# Altium footprint library GD32.PcbLib: 22 footprints (part 1 of 2)
Each footprint in its own frame and in the unit in brackets; x right, y up, seen from the top. Pads: shape width x height; smd on the part's side, far side on the other; paste and mask are expansions set on the pad; w line width, h text height; cw(c..) or ccw(c..) is an arc to the next point about the centre after c.
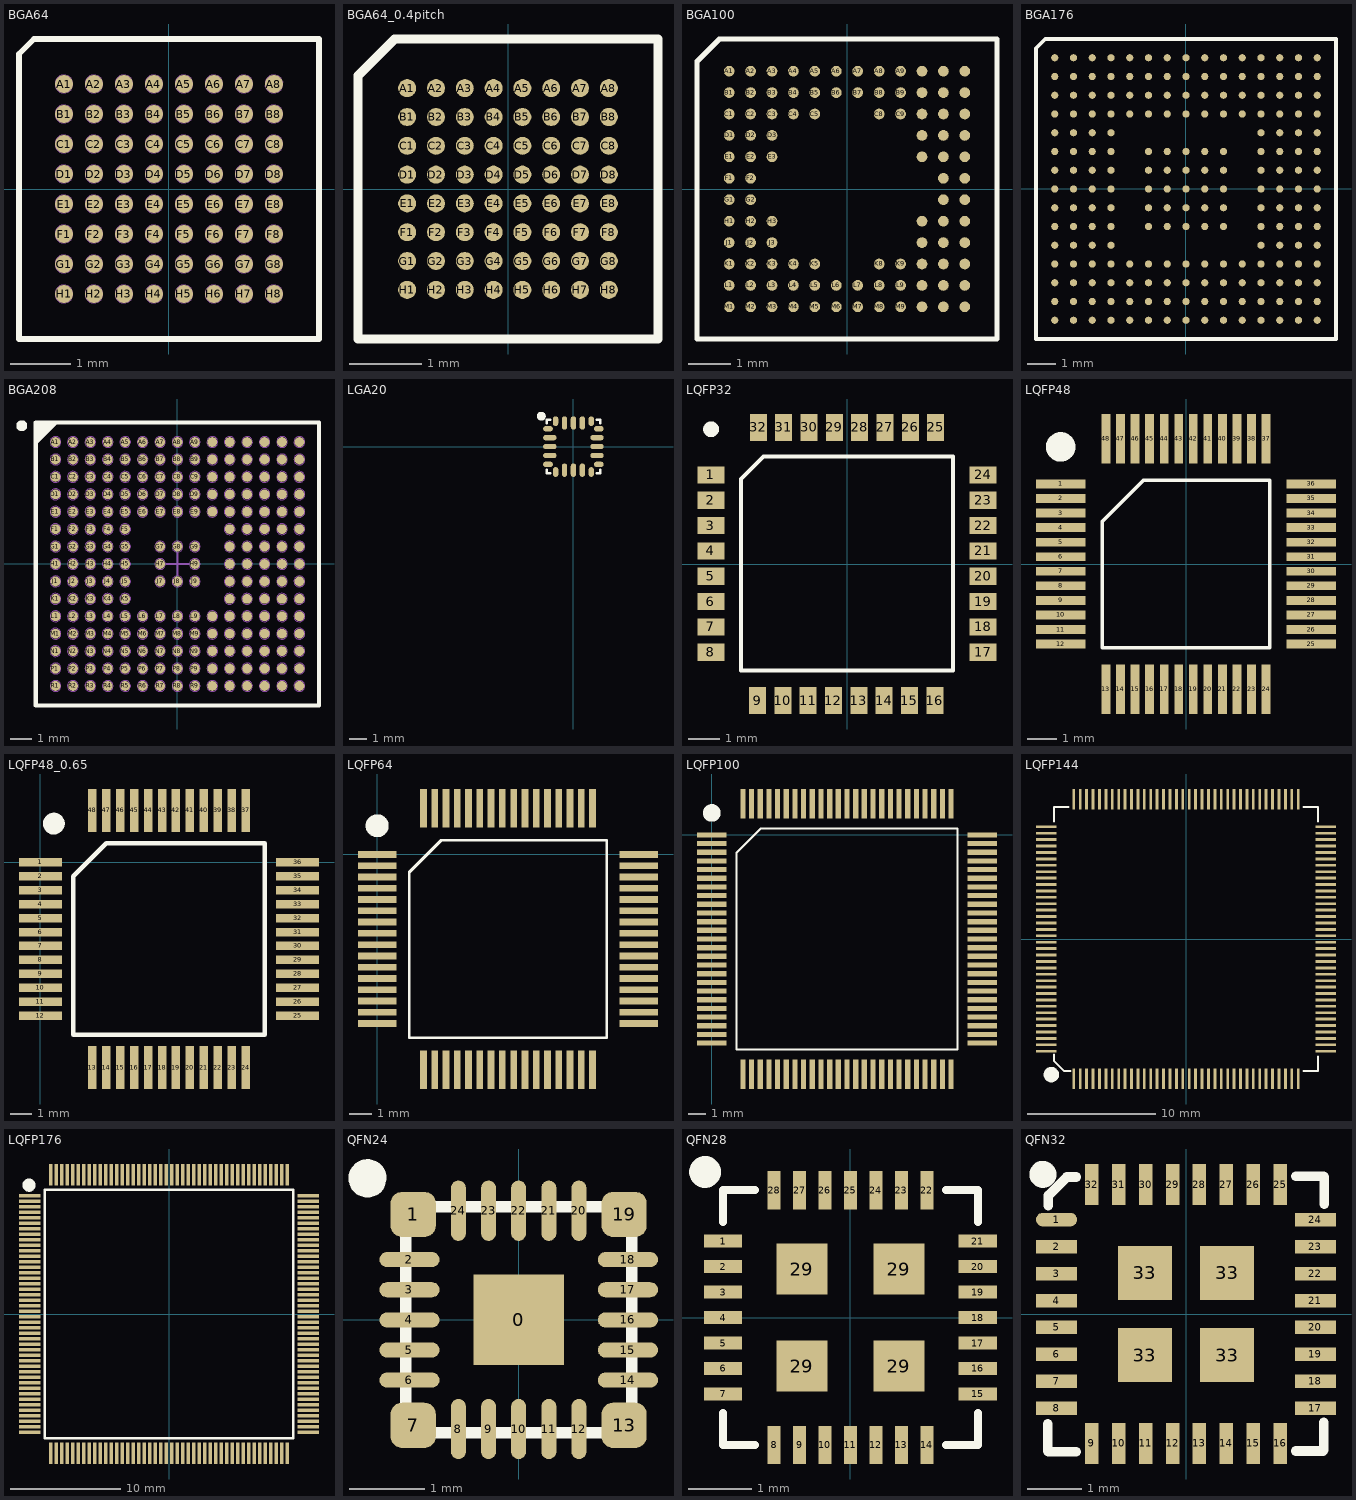
[diagram p0: the footprints below, top view; thin cyan lines are the x and y axes]

## BGA64 [mm] "5*5 0.5pitch"
pads (64):
  round 0.3 smd: A1(-1.75,1.75) A2(-1.25,1.75) A3(-0.75,1.75) A4(-0.25,1.75) A5(0.25,1.75) A6(0.75,1.75) A7(1.25,1.75) A8(1.75,1.75) B1(-1.75,1.25) B2(-1.25,1.25) B3(-0.75,1.25) B4(-0.25,1.25) B5(0.25,1.25) B6(0.75,1.25) B7(1.25,1.25) B8(1.75,1.25) C1(-1.75,0.75) C2(-1.25,0.75) C3(-0.75,0.75) C4(-0.25,0.75) C5(0.25,0.75) C6(0.75,0.75) C7(1.25,0.75) C8(1.75,0.75) D1(-1.75,0.25) D2(-1.25,0.25) D3(-0.75,0.25) D4(-0.25,0.25) D5(0.25,0.25) D6(0.75,0.25) D7(1.25,0.25) D8(1.75,0.25) E1(-1.75,-0.25) E2(-1.25,-0.25) E3(-0.75,-0.25) E4(-0.25,-0.25) E5(0.25,-0.25) E6(0.75,-0.25) E7(1.25,-0.25) E8(1.75,-0.25) F1(-1.75,-0.75) F2(-1.25,-0.75) F3(-0.75,-0.75) F4(-0.25,-0.75) F5(0.25,-0.75) F6(0.75,-0.75) F7(1.25,-0.75) F8(1.75,-0.75) G1(-1.75,-1.25) G2(-1.25,-1.25) G3(-0.75,-1.25) G4(-0.25,-1.25) G5(0.25,-1.25) G6(0.75,-1.25) G7(1.25,-1.25) G8(1.75,-1.25) H1(-1.75,-1.75) H2(-1.25,-1.75) H3(-0.75,-1.75) H4(-0.25,-1.75) H5(0.25,-1.75) H6(0.75,-1.75) H7(1.25,-1.75) H8(1.75,-1.75)
Top Overlay:
  lines w0.1: -2.5,-2.5 -2.5,2.25 -2.25,2.5 2.5,2.5 2.5,-2.5 -2.5,-2.5
Mechanical 2:
  circle w0.001: c1.604,1.716 r0
  circle w0.001: c1.896,1.784 r0
  circle w0.001: c-1.25,-1.75 r0
  circle w0.001: c-1.75,-1.75 r0
  circle w0.001: c-1.75,-1.75 r0
  circle w0.001: c-1.75,1.75 r0
  circle w0.001: c1.75,1.75 r0
  circle w0.001: c-1.75,1.75 r0
  circle w0.001: c-1.75,-1.75 r0.15
  circle w0.001: c-1.75,0.25 r0.15
  circle w0.001: c-1.75,-0.25 r0.15
  circle w0.001: c-1.75,-0.75 r0.15
  circle w0.001: c-1.75,1.75 r0.15
  circle w0.001: c-1.75,1.25 r0.15
  circle w0.001: c0.25,-1.75 r0.15
  circle w0.001: c-0.25,-1.75 r0.15
  circle w0.001: c-0.75,-1.75 r0.15
  circle w0.001: c0.25,0.25 r0.15
  circle w0.001: c0.25,-0.25 r0.15
  circle w0.001: c0.25,-0.75 r0.15
  circle w0.001: c-0.25,0.25 r0.15
  circle w0.001: c-0.25,-0.25 r0.15
  circle w0.001: c-0.25,-0.75 r0.15
  circle w0.001: c-0.75,0.25 r0.15
  circle w0.001: c-0.75,-0.25 r0.15
  circle w0.001: c-0.75,-0.75 r0.15
  circle w0.001: c0.25,1.75 r0.15
  circle w0.001: c0.25,1.25 r0.15
  circle w0.001: c-0.25,1.75 r0.15
  circle w0.001: c-0.25,1.25 r0.15
  circle w0.001: c-0.75,1.75 r0.15
  circle w0.001: c-0.75,1.25 r0.15
  circle w0.001: c1.75,-1.75 r0.15
  circle w0.001: c1.25,-1.75 r0.15
  circle w0.001: c1.75,0.25 r0.15
  circle w0.001: c1.75,-0.25 r0.15
  circle w0.001: c1.75,-0.75 r0.15
  circle w0.001: c1.25,0.25 r0.15
  circle w0.001: c1.25,-0.25 r0.15
  circle w0.001: c1.25,-0.75 r0.15
  circle w0.001: c1.75,1.75 r0.15
  circle w0.001: c1.75,1.25 r0.15
  circle w0.001: c1.25,1.75 r0.15
  circle w0.001: c1.25,1.25 r0.15
  circle w0.001: c-1.75,-1.25 r0.15
  circle w0.001: c-1.75,0.75 r0.15
  circle w0.001: c0.25,-1.25 r0.15
  circle w0.001: c-0.25,-1.25 r0.15
  circle w0.001: c-0.75,-1.25 r0.15
  circle w0.001: c0.25,0.75 r0.15
  circle w0.001: c-0.25,0.75 r0.15
  circle w0.001: c-0.75,0.75 r0.15
  circle w0.001: c1.75,-1.25 r0.15
  circle w0.001: c1.25,-1.25 r0.15
  circle w0.001: c1.75,0.75 r0.15
  circle w0.001: c1.25,0.75 r0.15
  circle w0.001: c-1.25,-1.75 r0.15
  circle w0.001: c-1.25,0.25 r0.15
  circle w0.001: c-1.25,-0.25 r0.15
  circle w0.001: c-1.25,-0.75 r0.15
  circle w0.001: c-1.25,1.75 r0.15
  circle w0.001: c-1.25,1.25 r0.15
  circle w0.001: c0.75,-1.75 r0.15
  circle w0.001: c0.75,0.25 r0.15
  circle w0.001: c0.75,-0.25 r0.15
  circle w0.001: c0.75,-0.75 r0.15
  circle w0.001: c0.75,1.75 r0.15
  circle w0.001: c0.75,1.25 r0.15
  circle w0.001: c-1.25,-1.25 r0.15
  circle w0.001: c-1.25,0.75 r0.15
  circle w0.001: c0.75,-1.25 r0.15
  circle w0.001: c0.75,0.75 r0.15

## BGA64_0.4pitch [mm] "4*4 0.4pitch"
pads (64):
  round 0.25 smd: A1(-1.4,1.4) A2(-1,1.4) A3(-0.6,1.4) A4(-0.2,1.4) A5(0.2,1.4) A6(0.6,1.4) A7(1,1.4) A8(1.4,1.4) B1(-1.4,1) B2(-1,1) B3(-0.6,1) B4(-0.2,1) B5(0.2,1) B6(0.6,1) B7(1,1) C1(-1.4,0.6) C2(-1,0.6) C3(-0.6,0.6) C4(-0.2,0.6) C5(0.2,0.6) C6(0.6,0.6) C7(1,0.6) C8(1.4,0.6) D1(-1.4,0.2) D2(-1,0.2) D3(-0.6,0.2) D4(-0.2,0.2) D5(0.2,0.2) D6(0.6,0.2) D7(1,0.2) D8(1.4,0.2) E1(-1.4,-0.2) E2(-1,-0.2) E3(-0.6,-0.2) E4(-0.2,-0.2) E5(0.2,-0.2) E6(0.6,-0.2) E7(1,-0.2) E8(1.4,-0.2) F1(-1.4,-0.6) F2(-1,-0.6) F3(-0.6,-0.6) F4(-0.2,-0.6) F5(0.2,-0.6) F6(0.6,-0.6) F7(1,-0.6) F8(1.4,-0.6) G1(-1.4,-1) G2(-1,-1) G3(-0.6,-1) G4(-0.2,-1) G5(0.2,-1) G6(0.6,-1) G7(1,-1) G8(1.4,-1) H1(-1.4,-1.4) H2(-1,-1.4) H3(-0.6,-1.4) H4(-0.2,-1.4) H5(0.2,-1.4) H6(0.6,-1.4) H7(1,-1.4) H8(1.4,-1.4)
  oval 0.25x0.253 smd: B8(1.4,1)
Top Overlay:
  lines w0.127: -2.083,-2.083 -2.083,1.575 -1.575,2.083 2.083,2.083 2.083,-2.083 -2.083,-2.083

## BGA100 [mm] "7*7 0.5pitch"
pads (100):
  round 0.25 smd mask+0.1: A1(-2.75,2.75)
  round 0.25 smd: A2(-2.25,2.75) A3(-1.75,2.75) A4(-1.25,2.75) A5(-0.75,2.75) A6(-0.25,2.75) A7(0.25,2.75) A8(0.75,2.75) A9(1.25,2.75) A10(1.75,2.75) A11(2.25,2.75) A12(2.75,2.75) B1(-2.75,2.25) B2(-2.25,2.25) B3(-1.75,2.25) B4(-1.25,2.25) B5(-0.75,2.25) B6(-0.25,2.25) B7(0.25,2.25) B8(0.75,2.25) B9(1.25,2.25) B10(1.75,2.25) B11(2.25,2.25) B12(2.75,2.25) C1(-2.75,1.75) C2(-2.25,1.75) C3(-1.75,1.75) C4(-1.25,1.75) C5(-0.75,1.75) C8(0.75,1.75) C9(1.25,1.75) C10(1.75,1.75) C11(2.25,1.75) C12(2.75,1.75) D1(-2.75,1.25) D2(-2.25,1.25) D3(-1.75,1.25) D10(1.75,1.25) D11(2.25,1.25) D12(2.75,1.25) E1(-2.75,0.75) E2(-2.25,0.75) E3(-1.75,0.75) E10(1.75,0.75) E11(2.25,0.75) E12(2.75,0.75) F1(-2.75,0.25) F2(-2.25,0.25) F11(2.25,0.25) F12(2.75,0.25) G1(-2.75,-0.25) G2(-2.25,-0.25) G11(2.25,-0.25) G12(2.75,-0.25) H1(-2.75,-0.75) H2(-2.25,-0.75) H3(-1.75,-0.75) H10(1.75,-0.75) H11(2.25,-0.75) H12(2.75,-0.75) J1(-2.75,-1.25) J2(-2.25,-1.25) J3(-1.75,-1.25) J10(1.75,-1.25) J11(2.25,-1.25) J12(2.75,-1.25) K1(-2.75,-1.75) K2(-2.25,-1.75) K3(-1.75,-1.75) K4(-1.25,-1.75) K5(-0.75,-1.75) K8(0.75,-1.75) K9(1.25,-1.75) K10(1.75,-1.75) K11(2.25,-1.75) K12(2.75,-1.75) L1(-2.75,-2.25) L2(-2.25,-2.25) L3(-1.75,-2.25) L4(-1.25,-2.25) L5(-0.75,-2.25) L6(-0.25,-2.25) L7(0.25,-2.25) L8(0.75,-2.25) L9(1.25,-2.25) L10(1.75,-2.25) L11(2.25,-2.25) L12(2.75,-2.25) M1(-2.75,-2.75) M2(-2.25,-2.75) M3(-1.75,-2.75) M4(-1.25,-2.75) M5(-0.75,-2.75) M6(-0.25,-2.75) M7(0.25,-2.75) M8(0.75,-2.75) M9(1.25,-2.75) M10(1.75,-2.75) M11(2.25,-2.75) M12(2.75,-2.75)
Top Overlay:
  lines w0.127: -3.5,-3.5 -3.5,2.977 -2.977,3.5 3.5,3.5 3.5,-3.5 -3.5,-3.5

## BGA176 [mm] "10*10 0.65pitch"
pads (201):
  round 0.25 smd mask+0.1: A1(-4.55,4.55)
  round 0.25 smd: A2(-3.9,4.55) A3(-3.25,4.55) A4(-2.6,4.55) A5(-1.95,4.55) A6(-1.3,4.55) A7(-0.65,4.55) A8(0,4.55) A9(0.65,4.55) A10(1.3,4.55) A11(1.95,4.55) A12(2.6,4.55) A13(3.25,4.55) A14(3.9,4.55) A15(4.55,4.55) B1(-4.55,3.9) B2(-3.9,3.9) B3(-3.25,3.9) B4(-2.6,3.9) B5(-1.95,3.9) B6(-1.3,3.9) B7(-0.65,3.9) B8(0,3.9) B9(0.65,3.9) B10(1.3,3.9) B11(1.95,3.9) B12(2.6,3.9) B13(3.25,3.9) B14(3.9,3.9) B15(4.55,3.9) C1(-4.55,3.25) C2(-3.9,3.25) C3(-3.25,3.25) C4(-2.6,3.25) C5(-1.95,3.25) C6(-1.3,3.25) C7(-0.65,3.25) C8(0,3.25) C9(0.65,3.25) C10(1.3,3.25) C11(1.95,3.25) C12(2.6,3.25) C13(3.25,3.25) C14(3.9,3.25) C15(4.55,3.25) D1(-4.55,2.6) D2(-3.9,2.6) D3(-3.25,2.6) D4(-2.6,2.6) D5(-1.95,2.6) D6(-1.3,2.6) D7(-0.65,2.6) D8(0,2.6) D9(0.65,2.6) D10(1.3,2.6) D11(1.95,2.6) D12(2.6,2.6) D13(3.25,2.6) D14(3.9,2.6) D15(4.55,2.6) E1(-4.55,1.95) E2(-3.9,1.95) E3(-3.25,1.95) E4(-2.6,1.95) E12(2.6,1.95) E13(3.25,1.95) E14(3.9,1.95) E15(4.55,1.95) F1(-4.55,1.3) F2(-3.9,1.3) F3(-3.25,1.3) F4(-2.6,1.3) F6(-1.3,1.3) F7(-0.65,1.3) F8(0,1.3) F9(0.65,1.3) F10(1.3,1.3) F12(2.6,1.3) F13(3.25,1.3) F14(3.9,1.3) F15(4.55,1.3) G1(-4.55,0.65) G2(-3.9,0.65) G3(-3.25,0.65) G4(-2.6,0.65) G6(-1.3,0.65) G7(-0.65,0.65) G8(0,0.65) G9(0.65,0.65) G10(1.3,0.65) G12(2.6,0.65) G13(3.25,0.65) G14(3.9,0.65) G15(4.55,0.65) H1(-4.55,0) H2(-3.9,0) H3(-3.25,0) H4(-2.6,0) H6(-1.3,0) H7(-0.65,0) H8(0,0) H9(0.65,0) H10(1.3,0) H12(2.6,0) H13(3.25,0) H14(3.9,0) H15(4.55,0) J1(-4.55,-0.65) J2(-3.9,-0.65) J3(-3.25,-0.65) J4(-2.6,-0.65) J6(-1.3,-0.65) J7(-0.65,-0.65) J8(0,-0.65) J9(0.65,-0.65) J10(1.3,-0.65) J12(2.6,-0.65) J13(3.25,-0.65) J14(3.9,-0.65) J15(4.55,-0.65) K1(-4.55,-1.3) K2(-3.9,-1.3) K3(-3.25,-1.3) K4(-2.6,-1.3) K6(-1.3,-1.3) K7(-0.65,-1.3) K8(0,-1.3) K9(0.65,-1.3) K10(1.3,-1.3) K12(2.6,-1.3) K13(3.25,-1.3) K14(3.9,-1.3) K15(4.55,-1.3) L1(-4.55,-1.95) L2(-3.9,-1.95) L3(-3.25,-1.95) L4(-2.6,-1.95) L12(2.6,-1.95) L13(3.25,-1.95) L14(3.9,-1.95) L15(4.55,-1.95) M1(-4.55,-2.6) M2(-3.9,-2.6) M3(-3.25,-2.6) M4(-2.6,-2.6) M5(-1.95,-2.6) M6(-1.3,-2.6) M7(-0.65,-2.6) M8(0,-2.6) M9(0.65,-2.6) M10(1.3,-2.6) M11(1.95,-2.6) M12(2.6,-2.6) M13(3.25,-2.6) M14(3.9,-2.6) M15(4.55,-2.6) N1(-4.55,-3.25) N2(-3.9,-3.25) N3(-3.25,-3.25) N4(-2.6,-3.25) N5(-1.95,-3.25) N6(-1.3,-3.25) N7(-0.65,-3.25) N8(0,-3.25) N9(0.65,-3.25) N10(1.3,-3.25) N11(1.95,-3.25) N12(2.6,-3.25) N13(3.25,-3.25) N14(3.9,-3.25) N15(4.55,-3.25) P1(-4.55,-3.9) P2(-3.9,-3.9) P3(-3.25,-3.9) P4(-2.6,-3.9) P5(-1.95,-3.9) P6(-1.3,-3.9) P7(-0.65,-3.9) P8(0,-3.9) P9(0.65,-3.9) P10(1.3,-3.9) P11(1.95,-3.9) P12(2.6,-3.9) P13(3.25,-3.9) P14(3.9,-3.9) P15(4.55,-3.9) R1(-4.55,-4.55) R2(-3.9,-4.55) R3(-3.25,-4.55) R4(-2.6,-4.55) R5(-1.95,-4.55) R6(-1.3,-4.55) R7(-0.65,-4.55) R8(0,-4.55) R9(0.65,-4.55) R10(1.3,-4.55) R11(1.95,-4.55) R12(2.6,-4.55) R13(3.25,-4.55) R14(3.9,-4.55) R15(4.55,-4.55)
Top Overlay:
  lines w0.127: -5.2,-5.2 -5.2,4.875 -4.875,5.2 5.2,5.2 5.2,-5.2 -5.2,-5.2

## BGA208 [mm] "13*13,0.8pitch"
height 1.05
pads (208):
  round 0.45 smd: A1(-5.6,5.6) A2(-4.8,5.6) A3(-4,5.6) A4(-3.2,5.6) A5(-2.4,5.6) A6(-1.6,5.6) A7(-0.8,5.6) A8(0,5.6) A9(0.8,5.6) A10(1.6,5.6) A11(2.4,5.6) A12(3.2,5.6) A13(4,5.6) A14(4.8,5.6) A15(5.6,5.6) B1(-5.6,4.8) B2(-4.8,4.8) B3(-4,4.8) B4(-3.2,4.8) B5(-2.4,4.8) B6(-1.6,4.8) B7(-0.8,4.8) B8(0,4.8) B9(0.8,4.8) B10(1.6,4.8) B11(2.4,4.8) B12(3.2,4.8) B13(4,4.8) B14(4.8,4.8) B15(5.6,4.8) C1(-5.6,4) C2(-4.8,4) C3(-4,4) C4(-3.2,4) C5(-2.4,4) C6(-1.6,4) C7(-0.8,4) C8(0,4) C9(0.8,4) C10(1.6,4) C11(2.4,4) C12(3.2,4) C13(4,4) C14(4.8,4) C15(5.6,4) D1(-5.6,3.2) D2(-4.8,3.2) D3(-4,3.2) D4(-3.2,3.2) D5(-2.4,3.2) D6(-1.6,3.2) D7(-0.8,3.2) D8(0,3.2) D9(0.8,3.2) D10(1.6,3.2) D11(2.4,3.2) D12(3.2,3.2) D13(4,3.2) D14(4.8,3.2) D15(5.6,3.2) E1(-5.6,2.4) E2(-4.8,2.4) E3(-4,2.4) E4(-3.2,2.4) E5(-2.4,2.4) E6(-1.6,2.4) E7(-0.8,2.4) E8(0,2.4) E9(0.8,2.4) E10(1.6,2.4) E11(2.4,2.4) E12(3.2,2.4) E13(4,2.4) E14(4.8,2.4) E15(5.6,2.4) F1(-5.6,1.6) F2(-4.8,1.6) F3(-4,1.6) F4(-3.2,1.6) F5(-2.4,1.6) F11(2.4,1.6) F12(3.2,1.6) F13(4,1.6) F14(4.8,1.6) F15(5.6,1.6) G1(-5.6,0.8) G2(-4.8,0.8) G3(-4,0.8) G4(-3.2,0.8) G5(-2.4,0.8) G7(-0.8,0.8) G8(0,0.8) G9(0.8,0.8) G11(2.4,0.8) G12(3.2,0.8) G13(4,0.8) G14(4.8,0.8) G15(5.6,0.8) H1(-5.6,0) H2(-4.8,0) H3(-4,0) H4(-3.2,0) H5(-2.4,0) H7(-0.8,0) H9(0.8,0) H11(2.4,0) H12(3.2,0) H13(4,0) H14(4.8,0) H15(5.6,0) J1(-5.6,-0.8) J2(-4.8,-0.8) J3(-4,-0.8) J4(-3.2,-0.8) J5(-2.4,-0.8) J7(-0.8,-0.8) J8(0,-0.8) J9(0.8,-0.8) J11(2.4,-0.8) J12(3.2,-0.8) J13(4,-0.8) J14(4.8,-0.8) J15(5.6,-0.8) K1(-5.6,-1.6) K2(-4.8,-1.6) K3(-4,-1.6) K4(-3.2,-1.6) K5(-2.4,-1.6) K11(2.4,-1.6) K12(3.2,-1.6) K13(4,-1.6) K14(4.8,-1.6) K15(5.6,-1.6) L1(-5.6,-2.4) L2(-4.8,-2.4) L3(-4,-2.4) L4(-3.2,-2.4) L5(-2.4,-2.4) L6(-1.6,-2.4) L7(-0.8,-2.4) L8(0,-2.4) L9(0.8,-2.4) L10(1.6,-2.4) L11(2.4,-2.4) L12(3.2,-2.4) L13(4,-2.4) L14(4.8,-2.4) L15(5.6,-2.4) M1(-5.6,-3.2) M2(-4.8,-3.2) M3(-4,-3.2) M4(-3.2,-3.2) M5(-2.4,-3.2) M6(-1.6,-3.2) M7(-0.8,-3.2) M8(0,-3.2) M9(0.8,-3.2) M10(1.6,-3.2) M11(2.4,-3.2) M12(3.2,-3.2) M13(4,-3.2) M14(4.8,-3.2) M15(5.6,-3.2) N1(-5.6,-4) N2(-4.8,-4) N3(-4,-4) N4(-3.2,-4) N5(-2.4,-4) N6(-1.6,-4) N7(-0.8,-4) N8(0,-4) N9(0.8,-4) N10(1.6,-4) N11(2.4,-4) N12(3.2,-4) N13(4,-4) N14(4.8,-4) N15(5.6,-4) P1(-5.6,-4.8) P2(-4.8,-4.8) P3(-4,-4.8) P4(-3.2,-4.8) P5(-2.4,-4.8) P6(-1.6,-4.8) P7(-0.8,-4.8) P8(0,-4.8) P9(0.8,-4.8) P10(1.6,-4.8) P11(2.4,-4.8) P12(3.2,-4.8) P13(4,-4.8) P14(4.8,-4.8) P15(5.6,-4.8) R1(-5.6,-5.6) R2(-4.8,-5.6) R3(-4,-5.6) R4(-3.2,-5.6) R5(-2.4,-5.6) R6(-1.6,-5.6) R7(-0.8,-5.6) R8(0,-5.6) R9(0.8,-5.6) R10(1.6,-5.6) R11(2.4,-5.6) R12(3.2,-5.6) R13(4,-5.6) R14(4.8,-5.6) R15(5.6,-5.6)
Top Overlay:
  circle w0.25: c-7.15,6.35 r0.125
  region: -5.584,6.5 -6.5,5.584 -6.5,6.5
  lines w0.2: -6.5,5.584 -5.584,6.5 ; -6.5,-6.5 -6.5,6.5 6.5,6.5 6.5,-6.5 -6.5,-6.5
Mechanical 1:
  drawing of 216 lines, arcs and shapes, not listed
Mechanical 2:
  lines w0.1: -6.5,-6.5 -6.5,6.5 6.5,6.5 6.5,-6.5 -6.5,-6.5
Mechanical 4:
  lines w0.1: -0.5,0 0.5,0 ; 0,-0.5 0,0.5
3D body: height 1.05, standoff 0.11, extent -6.5,-6.5 6.5,6.5

## LGA20 [mm] "3*3 0.5pitch"
pads (20):
  oval 0.55x0.3 smd: 1(-1.425,1) 5(-1.425,-1) 11(1.425,-1) 15(1.425,1)
  oval 0.75x0.3 smd: 2(-1.325,0.5) 3(-1.325,0) 4(-1.325,-0.5) 12(1.325,-0.5) 13(1.325,0) 14(1.325,0.5)
  oval 0.3x0.55 smd: 6(-1,-1.425) 10(1,-1.425) 16(1,1.425) 20(-1,1.425)
  oval 0.3x0.75 smd: 7(-0.5,-1.325) 8(0,-1.325) 9(0.5,-1.325) 17(0.5,1.325) 18(0,1.325) 19(-0.5,1.325)
Mid-Layer 1:
  circle w0.001: c-9.039,-15 r0
Top Overlay:
  circle w0.25: c-1.801,1.702 r0.125
  lines w0.127: -1.5,-1.294 -1.5,-1.5 -1.294,-1.5 ; -1.5,1.3 -1.5,1.5 -1.3,1.5 ; 1.294,1.5 1.5,1.5 1.5,1.3 ; 1.3,-1.5 1.5,-1.5 1.5,-1.294

## LQFP32 [mm] "7*7 0.8pitch"
pads (32):
  rect 0.85x0.54 smd: 1(-4.3,2.813) 2(-4.3,2.013) 3(-4.3,1.213) 4(-4.3,0.413) 5(-4.3,-0.387) 6(-4.3,-1.187) 7(-4.3,-1.987) 8(-4.3,-2.787) 17(4.3,-2.787) 18(4.3,-1.987) 19(4.3,-1.187) 20(4.3,-0.387) 21(4.3,0.413) 22(4.3,1.213) 23(4.3,2.013) 24(4.3,2.813)
  rect 0.54x0.85 smd: 9(-2.826,-4.313) 10(-2.026,-4.313) 11(-1.226,-4.313) 12(-0.426,-4.313) 13(0.374,-4.313) 14(1.174,-4.313) 15(1.974,-4.313) 16(2.774,-4.313) 25(2.8,4.313) 26(2,4.313) 27(1.2,4.313) 28(0.4,4.313) 29(-0.4,4.313) 30(-1.2,4.313) 31(-2,4.313) 32(-2.8,4.313)
Top Overlay:
  circle w0.25: c-4.292,4.255 r0.125
  lines w0.127: 3.352,3.365 3.352,-3.365 -3.354,-3.365 -3.354,2.68 -2.643,3.391 3.352,3.391

## LQFP48 [mm] "7*7 0.5pitch"
pads (48):
  rect 1.7x0.3 smd: 1(-4.3,2.75) 2(-4.3,2.25) 3(-4.3,1.75) 4(-4.3,1.25) 5(-4.3,0.75) 6(-4.3,0.25) 7(-4.3,-0.25) 8(-4.3,-0.75) 9(-4.3,-1.25) 10(-4.3,-1.75) 11(-4.3,-2.25) 12(-4.3,-2.75) 25(4.3,-2.75) 26(4.3,-2.25) 27(4.3,-1.75) 28(4.3,-1.25) 29(4.3,-0.75) 30(4.3,-0.25) 31(4.3,0.25) 32(4.3,0.75) 33(4.3,1.25) 34(4.3,1.75) 35(4.3,2.25) 36(4.3,2.75)
  rect 0.3x1.7 smd: 13(-2.75,-4.3) 14(-2.25,-4.3) 15(-1.75,-4.3) 16(-1.25,-4.3) 17(-0.75,-4.3) 18(-0.25,-4.3) 19(0.25,-4.3) 20(0.75,-4.3) 21(1.25,-4.3) 22(1.75,-4.3) 23(2.25,-4.3) 24(2.75,-4.3) 37(2.75,4.3) 38(2.25,4.3) 39(1.75,4.3) 40(1.25,4.3) 41(0.75,4.3) 42(0.25,4.3) 43(-0.25,4.3) 44(-0.75,4.3) 45(-1.25,4.3) 46(-1.75,4.3) 47(-2.25,4.3) 48(-2.75,4.3)
Top Overlay:
  circle w0.508: c-4.3,4.02 r0.254
  lines w0.127: -2.878,-2.878 2.878,-2.878 2.878,2.878 -1.457,2.878 -2.878,1.457 -2.878,-2.878

## LQFP48_0.65 [mm] "10*10 0.65pitch"
pads (48):
  rect 2x0.4 smd: 1(0,0) 2(0,-0.65) 3(0,-1.3) 4(0,-1.95) 5(0,-2.6) 6(0,-3.25) 7(0,-3.9) 8(0,-4.55) 9(0,-5.2) 10(0,-5.85) 11(0,-6.5) 12(0,-7.15) 25(12,-7.15) 26(12,-6.5) 27(12,-5.85) 28(12,-5.2) 29(12,-4.55) 30(12,-3.9) 31(12,-3.25) 32(12,-2.6) 33(12,-1.95) 34(12,-1.3) 35(12,-0.65) 36(12,0)
  rect 0.4x2 smd: 13(2.425,-9.575) 14(3.075,-9.575) 15(3.725,-9.575) 16(4.375,-9.575) 17(5.025,-9.575) 18(5.675,-9.575) 19(6.325,-9.575) 20(6.975,-9.575) 21(7.625,-9.575) 22(8.275,-9.575) 23(8.925,-9.575) 24(9.575,-9.575) 37(9.575,2.425) 38(8.925,2.425) 39(8.275,2.425) 40(7.625,2.425) 41(6.975,2.425) 42(6.325,2.425) 43(5.675,2.425) 44(5.025,2.425) 45(4.375,2.425) 46(3.725,2.425) 47(3.075,2.425) 48(2.425,2.425)
Top Overlay:
  circle w0.508: c0.628,1.81 r0.254
  lines w0.2: 1.535,-8.04 1.535,-0.645 3.07,0.89 10.465,0.89 10.465,-8.04 1.535,-8.04

## LQFP64 [mm] "10*10 0.5pitch"
pads (64):
  rect 1.7x0.3 smd: 1(0,0) 2(0,-0.5) 3(0,-1) 4(0,-1.5) 5(0,-2) 6(0,-2.5) 7(0,-3) 8(0,-3.5) 9(0,-4) 10(0,-4.5) 11(0,-5) 12(0,-5.5) 13(0,-6) 14(0,-6.5) 15(0,-7) 16(0,-7.5) 33(11.6,-7.5) 34(11.6,-7) 35(11.6,-6.5) 36(11.6,-6) 37(11.6,-5.5) 38(11.6,-5) 39(11.6,-4.5) 40(11.6,-4) 41(11.6,-3.5) 42(11.6,-3) 43(11.6,-2.5) 44(11.6,-2) 45(11.6,-1.5) 46(11.6,-1) 47(11.6,-0.5) 48(11.6,0)
  rect 0.3x1.7 smd: 17(2.05,-9.55) 18(2.55,-9.55) 19(3.05,-9.55) 20(3.55,-9.55) 21(4.05,-9.55) 22(4.55,-9.55) 23(5.05,-9.55) 24(5.55,-9.55) 25(6.05,-9.55) 26(6.55,-9.55) 27(7.05,-9.55) 28(7.55,-9.55) 29(8.05,-9.55) 30(8.55,-9.55) 31(9.05,-9.55) 32(9.55,-9.55) 49(9.55,2.05) 50(9.05,2.05) 51(8.55,2.05) 52(8.05,2.05) 53(7.55,2.05) 54(7.05,2.05) 55(6.55,2.05) 56(6.05,2.05) 57(5.55,2.05) 58(5.05,2.05) 59(4.55,2.05) 60(4.05,2.05) 61(3.55,2.05) 62(3.05,2.05) 63(2.55,2.05) 64(2.05,2.05)
Top Overlay:
  circle w0.508: c0,1.27 r0.254
  lines w0.127: 1.421,-8.128 1.421,-0.793 2.843,0.629 10.178,0.629 10.178,-8.128 1.421,-8.128

## LQFP100 [mm] "14*14 0.5pitch"
pads (100):
  rect 1.7x0.3 smd: 1(0,0) 2(0,-0.5) 3(0,-1) 4(0,-1.5) 5(0,-2) 6(0,-2.5) 7(0,-3) 8(0,-3.5) 9(0,-4) 10(0,-4.5) 11(0,-5) 12(0,-5.5) 13(0,-6) 14(0,-6.5) 15(0,-7) 16(0,-7.5) 17(0,-8) 18(0,-8.5) 19(0,-9) 20(0,-9.5) 21(0,-10) 22(0,-10.5) 23(0,-11) 24(0,-11.5) 25(0,-12) 51(15.6,-12) 52(15.6,-11.5) 53(15.6,-11) 54(15.6,-10.5) 55(15.6,-10) 56(15.6,-9.5) 57(15.6,-9) 58(15.6,-8.5) 59(15.6,-8) 60(15.6,-7.5) 61(15.6,-7) 62(15.6,-6.5) 63(15.6,-6) 64(15.6,-5.5) 65(15.6,-5) 66(15.6,-4.5) 67(15.6,-4) 68(15.6,-3.5) 69(15.6,-3) 70(15.6,-2.5) 71(15.6,-2) 72(15.6,-1.5) 73(15.6,-1) 74(15.6,-0.5) 75(15.6,0)
  rect 0.3x1.7 smd: 26(1.8,-13.8) 27(2.3,-13.8) 28(2.8,-13.8) 29(3.3,-13.8) 30(3.8,-13.8) 31(4.3,-13.8) 32(4.8,-13.8) 33(5.3,-13.8) 34(5.8,-13.8) 35(6.3,-13.8) 36(6.8,-13.8) 37(7.3,-13.8) 38(7.8,-13.8) 39(8.3,-13.8) 40(8.8,-13.8) 41(9.3,-13.8) 42(9.8,-13.8) 43(10.3,-13.8) 44(10.8,-13.8) 45(11.3,-13.8) 46(11.8,-13.8) 47(12.3,-13.8) 48(12.8,-13.8) 49(13.3,-13.8) 50(13.8,-13.8) 76(13.8,1.8) 77(13.3,1.8) 78(12.8,1.8) 79(12.3,1.8) 80(11.8,1.8) 81(11.3,1.8) 82(10.8,1.8) 83(10.3,1.8) 84(9.8,1.8) 85(9.3,1.8) 86(8.8,1.8) 87(8.3,1.8) 88(7.8,1.8) 89(7.3,1.8) 90(6.8,1.8) 91(6.3,1.8) 92(5.8,1.8) 93(5.3,1.8) 94(4.8,1.8) 95(4.3,1.8) 96(3.8,1.8) 97(3.3,1.8) 98(2.8,1.8) 99(2.3,1.8) 100(1.8,1.8)
Top Overlay:
  circle w0.508: c0,1.27 r0.254
  lines w0.127: 1.421,-12.378 14.178,-12.378 14.178,0.379 2.843,0.379 1.421,-1.043 1.421,-12.378

## LQFP144 [mm] "20*20 0.5pitch"
pads (144):
  rect 0.22x1.6 smd: 1(-8.75,-10.9) 2(-8.25,-10.9) 3(-7.75,-10.9) 4(-7.25,-10.9) 5(-6.75,-10.9) 6(-6.25,-10.9) 7(-5.75,-10.9) 8(-5.25,-10.9) 9(-4.75,-10.9) 10(-4.25,-10.9) 11(-3.75,-10.9) 12(-3.25,-10.9) 13(-2.75,-10.9) 14(-2.25,-10.9) 15(-1.75,-10.9) 16(-1.25,-10.9) 17(-0.75,-10.9) 18(-0.25,-10.9) 19(0.25,-10.9) 20(0.75,-10.9) 21(1.25,-10.9) 22(1.75,-10.9) 23(2.25,-10.9) 24(2.75,-10.9) 25(3.25,-10.9) 26(3.75,-10.9) 27(4.25,-10.9) 28(4.75,-10.9) 29(5.25,-10.9) 30(5.75,-10.9) 31(6.25,-10.9) 32(6.75,-10.9) 33(7.25,-10.9) 34(7.75,-10.9) 35(8.25,-10.9) 36(8.75,-10.9) 73(8.75,10.9) 74(8.25,10.9) 75(7.75,10.9) 76(7.25,10.9) 77(6.75,10.9) 78(6.25,10.9) 79(5.75,10.9) 80(5.25,10.9) 81(4.75,10.9) 82(4.25,10.9) 83(3.75,10.9) 84(3.25,10.9) 85(2.75,10.9) 86(2.25,10.9) 87(1.75,10.9) 88(1.25,10.9) 89(0.75,10.9) 90(0.25,10.9) 91(-0.25,10.9) 92(-0.75,10.9) 93(-1.25,10.9) 94(-1.75,10.9) 95(-2.25,10.9) 96(-2.75,10.9) 97(-3.25,10.9) 98(-3.75,10.9) 99(-4.25,10.9) 100(-4.75,10.9) 101(-5.25,10.9) 102(-5.75,10.9) 103(-6.25,10.9) 104(-6.75,10.9) 105(-7.25,10.9) 106(-7.75,10.9) 107(-8.25,10.9) 108(-8.75,10.9)
  rect 1.6x0.22 smd: 37(10.9,-8.75) 38(10.9,-8.25) 39(10.9,-7.75) 40(10.9,-7.25) 41(10.9,-6.75) 42(10.9,-6.25) 43(10.9,-5.75) 44(10.9,-5.25) 45(10.9,-4.75) 46(10.9,-4.25) 47(10.9,-3.75) 48(10.9,-3.25) 49(10.9,-2.75) 50(10.9,-2.25) 51(10.9,-1.75) 52(10.9,-1.25) 53(10.9,-0.75) 54(10.9,-0.25) 55(10.9,0.25) 56(10.9,0.75) 57(10.9,1.25) 58(10.9,1.75) 59(10.9,2.25) 60(10.9,2.75) 61(10.9,3.25) 62(10.9,3.75) 63(10.9,4.25) 64(10.9,4.75) 65(10.9,5.25) 66(10.9,5.75) 67(10.9,6.25) 68(10.9,6.75) 69(10.9,7.25) 70(10.9,7.75) 71(10.9,8.25) 72(10.9,8.75) 109(-10.9,8.75) 110(-10.9,8.25) 111(-10.9,7.75) 112(-10.9,7.25) 113(-10.9,6.75) 114(-10.9,6.25) 115(-10.9,5.75) 116(-10.9,5.25) 117(-10.9,4.75) 118(-10.9,4.25) 119(-10.9,3.75) 120(-10.9,3.25) 121(-10.9,2.75) 122(-10.9,2.25) 123(-10.9,1.75) 124(-10.9,1.25) 125(-10.9,0.75) 126(-10.9,0.25) 127(-10.9,-0.25) 128(-10.9,-0.75) 129(-10.9,-1.25) 130(-10.9,-1.75) 131(-10.9,-2.25) 132(-10.9,-2.75) 133(-10.9,-3.25) 134(-10.9,-3.75) 135(-10.9,-4.25) 136(-10.9,-4.75) 137(-10.9,-5.25) 138(-10.9,-5.75) 139(-10.9,-6.25) 140(-10.9,-6.75) 141(-10.9,-7.25) 142(-10.9,-7.75) 143(-10.9,-8.25) 144(-10.9,-8.75)
Top Overlay:
  circle w0.6: c-10.503,-10.579 r0.3
  lines w0.152: -10.287,-9.017 -10.287,-9.525 -9.525,-10.287 -9.017,-10.287 ; -10.287,9.144 -10.287,10.287 -9.144,10.287 ; 9.144,-10.287 10.287,-10.287 ; 9.144,10.287 10.287,10.287 10.287,9.144 ; 10.287,-10.16 10.287,-10.287 ; 10.287,-9.144 10.287,-10.287

## LQFP176 [mm] "24*24 0.5pitch"
height 1.6
pads (176):
  rect 1.95x0.3 smd: 1(-12.675,10.75) 2(-12.675,10.25) 3(-12.675,9.75) 4(-12.675,9.25) 5(-12.675,8.75) 6(-12.675,8.25) 7(-12.675,7.75) 8(-12.675,7.25) 9(-12.675,6.75) 10(-12.675,6.25) 11(-12.675,5.75) 12(-12.675,5.25) 13(-12.675,4.75) 14(-12.675,4.25) 15(-12.675,3.75) 16(-12.675,3.25) 17(-12.675,2.75) 18(-12.675,2.25) 19(-12.675,1.75) 20(-12.675,1.25) 21(-12.675,0.75) 22(-12.675,0.25) 23(-12.675,-0.25) 24(-12.675,-0.75) 25(-12.675,-1.25) 26(-12.675,-1.75) 27(-12.675,-2.25) 28(-12.675,-2.75) 29(-12.675,-3.25) 30(-12.675,-3.75) 31(-12.675,-4.25) 32(-12.675,-4.75) 33(-12.675,-5.25) 34(-12.675,-5.75) 35(-12.675,-6.25) 36(-12.675,-6.75) 37(-12.675,-7.25) 38(-12.675,-7.75) 39(-12.675,-8.25) 40(-12.675,-8.75) 41(-12.675,-9.25) 42(-12.675,-9.75) 43(-12.675,-10.25) 44(-12.675,-10.75) 89(12.675,-10.75) 90(12.675,-10.25) 91(12.675,-9.75) 92(12.675,-9.25) 93(12.675,-8.75) 94(12.675,-8.25) 95(12.675,-7.75) 96(12.675,-7.25) 97(12.675,-6.75) 98(12.675,-6.25) 99(12.675,-5.75) 100(12.675,-5.25) 101(12.675,-4.75) 102(12.675,-4.25) 103(12.675,-3.75) 104(12.675,-3.25) 105(12.675,-2.75) 106(12.675,-2.25) 107(12.675,-1.75) 108(12.675,-1.25) 109(12.675,-0.75) 110(12.675,-0.25) 111(12.675,0.25) 112(12.675,0.75) 113(12.675,1.25) 114(12.675,1.75) 115(12.675,2.25) 116(12.675,2.75) 117(12.675,3.25) 118(12.675,3.75) 119(12.675,4.25) 120(12.675,4.75) 121(12.675,5.25) 122(12.675,5.75) 123(12.675,6.25) 124(12.675,6.75) 125(12.675,7.25) 126(12.675,7.75) 127(12.675,8.25) 128(12.675,8.75) 129(12.675,9.25) 130(12.675,9.75) 131(12.675,10.25) 132(12.675,10.75)
  rect 0.3x1.95 smd: 45(-10.75,-12.675) 46(-10.25,-12.675) 47(-9.75,-12.675) 48(-9.25,-12.675) 49(-8.75,-12.675) 50(-8.25,-12.675) 51(-7.75,-12.675) 52(-7.25,-12.675) 53(-6.75,-12.675) 54(-6.25,-12.675) 55(-5.75,-12.675) 56(-5.25,-12.675) 57(-4.75,-12.675) 58(-4.25,-12.675) 59(-3.75,-12.675) 60(-3.25,-12.675) 61(-2.75,-12.675) 62(-2.25,-12.675) 63(-1.75,-12.675) 64(-1.25,-12.675) 65(-0.75,-12.675) 66(-0.25,-12.675) 67(0.25,-12.675) 68(0.75,-12.675) 69(1.25,-12.675) 70(1.75,-12.675) 71(2.25,-12.675) 72(2.75,-12.675) 73(3.25,-12.675) 74(3.75,-12.675) 75(4.25,-12.675) 76(4.75,-12.675) 77(5.25,-12.675) 78(5.75,-12.675) 79(6.25,-12.675) 80(6.75,-12.675) 81(7.25,-12.675) 82(7.75,-12.675) 83(8.25,-12.675) 84(8.75,-12.675) 85(9.25,-12.675) 86(9.75,-12.675) 87(10.25,-12.675) 88(10.75,-12.675) 133(10.75,12.675) 134(10.25,12.675) 135(9.75,12.675) 136(9.25,12.675) 137(8.75,12.675) 138(8.25,12.675) 139(7.75,12.675) 140(7.25,12.675) 141(6.75,12.675) 142(6.25,12.675) 143(5.75,12.675) 144(5.25,12.675) 145(4.75,12.675) 146(4.25,12.675) 147(3.75,12.675) 148(3.25,12.675) 149(2.75,12.675) 150(2.25,12.675) 151(1.75,12.675) 152(1.25,12.675) 153(0.75,12.675) 154(0.25,12.675) 155(-0.25,12.675) 156(-0.75,12.675) 157(-1.25,12.675) 158(-1.75,12.675) 159(-2.25,12.675) 160(-2.75,12.675) 161(-3.25,12.675) 162(-3.75,12.675) 163(-4.25,12.675) 164(-4.75,12.675) 165(-5.25,12.675) 166(-5.75,12.675) 167(-6.25,12.675) 168(-6.75,12.675) 169(-7.25,12.675) 170(-7.75,12.675) 171(-8.25,12.675) 172(-8.75,12.675) 173(-9.25,12.675) 174(-9.75,12.675) 175(-10.25,12.675) 176(-10.75,12.675)
Top Overlay:
  circle w0.6: c-12.738,11.722 r0.3
  circle w0.25: c-12.675,11.45 r0.125
  lines w0.2: -11.3,-11.3 11.3,-11.3 11.3,11.3 -11.3,11.3 -11.3,-11.3

## QFN24 [mm] "3*3,0.4pitch"
pads (25):
  rect 1.2x1.2 smd: 0(0,0)
  rrect50% 0.6x0.6 smd: 1(-1.4,1.4) 7(-1.4,-1.4) 13(1.4,-1.4) 19(1.4,1.4)
  oval 0.8x0.2 smd: 2(-1.45,0.8) 3(-1.45,0.4) 4(-1.45,0) 5(-1.45,-0.4) 6(-1.45,-0.8) 14(1.45,-0.8) 15(1.45,-0.4) 16(1.45,0) 17(1.45,0.4) 18(1.45,0.8)
  oval 0.2x0.8 smd: 8(-0.8,-1.45) 9(-0.4,-1.45) 10(0,-1.45) 11(0.4,-1.45) 12(0.8,-1.45) 20(0.8,1.45) 21(0.4,1.45) 22(0,1.45) 23(-0.4,1.45) 24(-0.8,1.45)
Top Overlay:
  lines w0.152: -1.5,-1.5 -1.5,1.5 1.5,1.5 1.5,-1.5 -1.5,-1.5
  lines w0.254: -1.893,1.823 cw(c-2.007,1.88) -1.88,1.88

## QFN28 [mm] "4*4 0.4pitch"
pads (32):
  rect 0.6x0.2 smd: 1(-2,1.2) 2(-2,0.8) 3(-2,0.4) 4(-2,0) 5(-2,-0.4) 6(-2,-0.8) 7(-2,-1.2) 15(2,-1.2) 16(2,-0.8) 17(2,-0.4) 18(2,0) 19(2,0.4) 20(2,0.8) 21(2,1.2)
  rect 0.2x0.6 smd: 8(-1.2,-2) 9(-0.8,-2) 10(-0.4,-2) 11(0,-2) 12(0.4,-2) 13(0.8,-2) 14(1.2,-2) 22(1.2,2) 23(0.8,2) 24(0.4,2) 25(0,2) 26(-0.4,2) 27(-0.8,2) 28(-1.2,2)
  rect 0.8x0.8 smd: 29(-0.762,-0.762) 29(-0.762,0.762) 29(0.762,-0.762) 29(0.762,0.762)
Top Overlay:
  circle w0.25: c-2.284,2.286 r0.125
  lines w0.127: -2,-1.5 -2,-2 -1.5,-2 ; -2,1.5 -2,2 -1.5,2 ; 1.5,-2 2,-2 2,-1.5 ; 1.5,2 2,2 2,1.5

## QFN32 [mil] "5*5 0.5pitch"
pads (36):
  oval 30x9.84 smd: 1(-94.5,68.92)
  rect 30x9.84 smd: 2(-94.5,49.23) 3(-94.5,29.54) 4(-94.5,9.85) 5(-94.5,-9.85) 6(-94.5,-29.54) 7(-94.5,-49.23) 8(-94.5,-68.92) 17(94.5,-68.92) 18(94.5,-49.23) 19(94.5,-29.54) 20(94.5,-9.85) 21(94.5,9.85) 22(94.5,29.54) 23(94.5,49.23) 24(94.5,68.92)
  rect 9.84x30 smd: 9(-68.92,-94.5) 10(-49.23,-94.5) 11(-29.54,-94.5) 12(-9.85,-94.5) 13(9.85,-94.5) 14(29.54,-94.5) 15(49.23,-94.5) 16(68.92,-94.5) 25(68.92,94.5) 26(49.23,94.5) 27(29.54,94.5) 28(9.85,94.5) 29(-9.85,94.5) 30(-29.54,94.5) 31(-49.23,94.5) 32(-68.92,94.5)
  rect 39.37x39.37 smd: 33(-30,-30) 33(-30,30) 33(30,-30) 33(30,30)
Top Overlay:
  circle w9.84: c-104.42,101.92 r4.92
  lines w7: -101,-80 -101,-100 -100.5,-100.5 -80,-100.5 ; -100.5,79 -100.5,86.5 -87,100 -80,100 ; 80,-100 100,-100 100.5,-99.5 100.5,-79 ; 80,100.5 100.5,100.5 101,100 101,80